# Altium integrated library ON Semi Signal Management IO Expanders.IntLib: 48 symbols (part 2 of 3)
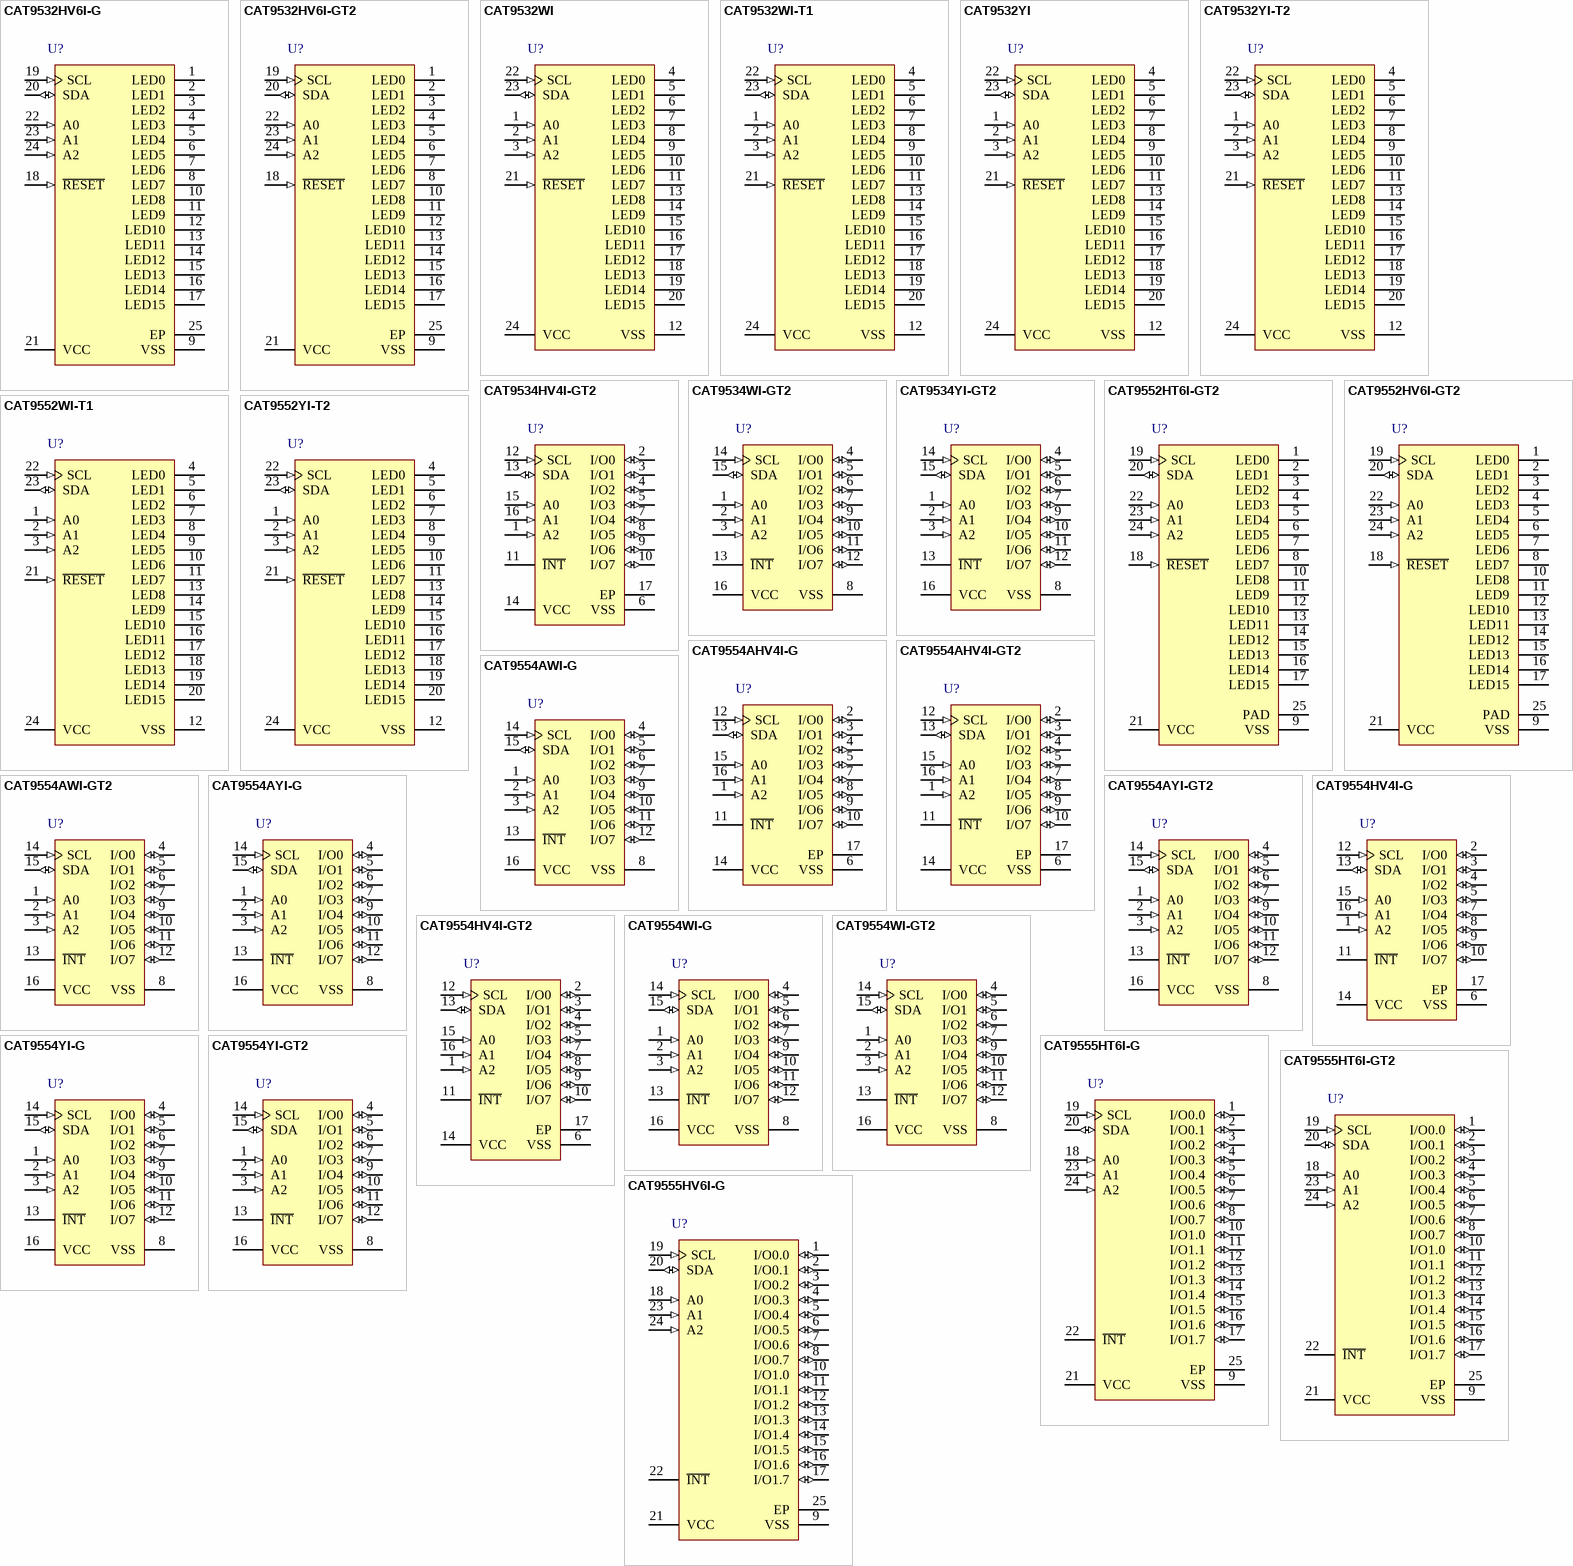
[diagram p2: symbols CAT9532HV6I-G to CAT9555HV6I-G]

## CAT9554YI-G
designator U?
8-Bit I2C and SMBus I/O Port with Interrupt, 2.3 to 5.5 V, -40 to 85 degC, 16-Pin TSSOP, Pb-Free, Tube; Manufacturer: On Semiconductor; PartNumber: CAT9554YI-G; I/O: 8; LED Blink/PWM: No; VCC Max (V): 5.5; VCC Min (V): 2.3; DatasheetVersion: Rev. 6; PackageVersion: Rev. O, 12/2008; PackageReference: TSSOP-16-948AN-01; PackageDescription: 16-Pin Small Outline Package, Body 5 x 4.4 mm, Pitch 0.65 mm; Supplier 1: Mouser; Supplier Part Number 1: 698-CAT9554YI-G; Packing: Tube; RoHS: TRUE; Mounting Technology: Surface Mount; Code_JEDEC: MO-153; ComponentLink1Description: Manufacturer URL; ComponentLink1URL: http://www.onsemi.com/; ComponentLink2Description: Datasheet; ComponentLink2URL: http://www.onsemi.com/pub_link/Collateral/CAT9554-D.PDF; ComponentLink3Description: Package Specification; ComponentLink3URL: http://www.onsemi.com/pub_link/Collateral/948AN.PDF
footprint ONSC-TSSOP-16-948AN-01_N (SOP, 16-Leads, Body 5.1x4.5mm, Pitch 0.65mm, IPC Medium Density)
footprint ONSC-TSSOP-16-948AN-01_L (SOP, 16-Leads, Body 5.1x4.5mm, Pitch 0.65mm, IPC High Density)
footprint ONSC-TSSOP-16-948AN-01_M (SOP, 16-Leads, Body 5.1x4.5mm, Pitch 0.65mm, IPC Low Density)
pins: 1 A0 (in) "Address Input 0", 2 A1 (in) "Address Input 1", 3 A2 (in) "Address Input 2", 4 I/O0 (io) "Input/Output Port 0", 5 I/O1 (io) "Input/Output Port 1", 6 I/O2 (io) "Input/Output Port 2", 7 I/O3 (io) "Input/Output Port 3", 8 VSS (power) "Ground", 9 I/O4 (io) "Input/Output Port 4", 10 I/O5 (io) "Input/Output Port 5", 11 I/O6 (io) "Input/Output Port 6", 12 I/O7 (io) "Input/Output Port 7", 13 ~{INT} (oc) "Interrupt Output (open drain)", 14 SCL (in) "Serial Clock", 15 SDA (io) "Serial Data", 16 VCC (power) "Power Supply"

## CAT9554YI-GT2
designator U?
8-Bit I2C and SMBus I/O Port with Interrupt, 2.3 to 5.5 V, -40 to 85 degC, 16-Pin TSSOP, Pb-Free, Tape and Reel; Manufacturer: On Semiconductor; PartNumber: CAT9554YI-GT2; I/O: 8; LED Blink/PWM: No; VCC Max (V): 5.5; VCC Min (V): 2.3; DatasheetVersion: Rev. 6; PackageVersion: Rev. O, 12/2008; PackageReference: TSSOP-16-948AN-01; PackageDescription: 16-Pin Small Outline Package, Body 5 x 4.4 mm, Pitch 0.65 mm; Supplier 1: Digi-Key; Supplier Part Number 1: CAT9554YI-GT2TR-ND; Supplier 2: Digi-Key; Supplier Part Number 2: CAT9554YI-GT2CT-ND; Supplier 3: Digi-Key; Supplier Part Number 3: CAT9554YI-GT2DKR-ND; Supplier 4: Newark; Supplier Part Number 4: 06R1500; Supplier 5: Mouser; Supplier Part Number 5: 698-CAT9554YI-GT2; Packing: Tape and Reel; RoHS: TRUE; Mounting Technology: Surface Mount; Code_JEDEC: MO-153; ComponentLink1Description: Manufacturer URL; ComponentLink1URL: http://www.onsemi.com/; ComponentLink2Description: Datasheet; ComponentLink2URL: http://www.onsemi.com/pub_link/Collateral/CAT9554-D.PDF; ComponentLink3Description: Package Specification; ComponentLink3URL: http://www.onsemi.com/pub_link/Collateral/948AN.PDF
footprint ONSC-TSSOP-16-948AN-01_N (SOP, 16-Leads, Body 5.1x4.5mm, Pitch 0.65mm, IPC Medium Density)
footprint ONSC-TSSOP-16-948AN-01_L (SOP, 16-Leads, Body 5.1x4.5mm, Pitch 0.65mm, IPC High Density)
footprint ONSC-TSSOP-16-948AN-01_M (SOP, 16-Leads, Body 5.1x4.5mm, Pitch 0.65mm, IPC Low Density)
pins: 1 A0 (in) "Address Input 0", 2 A1 (in) "Address Input 1", 3 A2 (in) "Address Input 2", 4 I/O0 (io) "Input/Output Port 0", 5 I/O1 (io) "Input/Output Port 1", 6 I/O2 (io) "Input/Output Port 2", 7 I/O3 (io) "Input/Output Port 3", 8 VSS (power) "Ground", 9 I/O4 (io) "Input/Output Port 4", 10 I/O5 (io) "Input/Output Port 5", 11 I/O6 (io) "Input/Output Port 6", 12 I/O7 (io) "Input/Output Port 7", 13 ~{INT} (oc) "Interrupt Output (open drain)", 14 SCL (in) "Serial Clock", 15 SDA (io) "Serial Data", 16 VCC (power) "Power Supply"

## CAT9555HT6I-G
designator U?
16-Bit I2C and SMBus I/O Port with Interrupt, 2.3 to 5.5 V, -40 to 85 degC, 24-Pin TQFN, Pb-Free, Tube; Manufacturer: On Semiconductor; PartNumber: CAT9555HT6I-G; I/O: 16; LED Blink/PWM: No; VCC Max (V): 5.5; VCC Min (V): 2.3; DatasheetVersion: Rev. 11; PackageVersion: Rev. B, 12/2009; PackageReference: TQFN-24-510AG-01; PackageDescription: 24-Pin Quad Flat No-Lead, Body 4 x 4 mm, Pitch 0.5 mm; Packing: Tube; RoHS: TRUE; Mounting Technology: Surface Mount; Code_JEDEC: MO-220; ComponentLink1Description: Manufacturer URL; ComponentLink1URL: http://www.onsemi.com/; ComponentLink2Description: Datasheet; ComponentLink2URL: http://www.onsemi.com/pub_link/Collateral/CAT9555-D.PDF; ComponentLink3Description: Package Specification; ComponentLink3URL: http://www.onsemi.com/pub_link/Collateral/510AG.PDF
footprint ONSC-TQFN-24-510AG-01_N (QFN, 24-Leads, Body 4x4mm, Pitch 0.5mm, Thermal Pad 2.8x2.8mm, IPC Medium Density)
footprint ONSC-TQFN-24-510AG-01_L (QFN, 24-Leads, Body 4x4mm, Pitch 0.5mm, Thermal Pad 2.8x2.8mm, IPC High Density)
footprint ONSC-TQFN-24-510AG-01_M (QFN, 24-Leads, Body 4x4mm, Pitch 0.5mm, Thermal Pad 2.8x2.8mm, IPC Low Density)
pins: 1 I/O0.0 (io) "I/O Port 0.0", 2 I/O0.1 (io) "I/O Port 0.1", 3 I/O0.2 (io) "I/O Port 0.2", 4 I/O0.3 (io) "I/O Port 0.3", 5 I/O0.4 (io) "I/O Port 0.4", 6 I/O0.5 (io) "I/O Port 0.5", 7 I/O0.6 (io) "I/O Port 0.6", 8 I/O0.7 (io) "I/O Port 0.7", 9 VSS (power) "Ground", 10 I/O1.0 (io) "I/O Port 1.0", 11 I/O1.1 (io) "I/O Port 1.1", 12 I/O1.2 (io) "I/O Port 1.2", 13 I/O1.3 (io) "I/O Port 1.3", 14 I/O1.4 (io) "I/O Port 1.4", 15 I/O1.5 (io) "I/O Port 1.5", 16 I/O1.6 (io) "I/O Port 1.6", 17 I/O1.7 (io) "I/O Port 1.7", 18 A0 (in) "Address Input 0", 19 SCL (in) "Serial Clock", 20 SDA (io) "Serial Data", 21 VCC (power) "Power Supply", 22 ~{INT} (oc) "Interrupt Output (open drain)", 23 A1 (in) "Address Input 1", 24 A2 (in) "Address Input 2", 25 EP

## CAT9555HT6I-GT2
designator U?
16-Bit I2C and SMBus I/O Port with Interrupt, 2.3 to 5.5 V, -40 to 85 degC, 24-Pin TQFN, Pb-Free, Tape and Reel; Manufacturer: On Semiconductor; PartNumber: CAT9555HT6I-GT2; I/O: 16; LED Blink/PWM: No; VCC Max (V): 5.5; VCC Min (V): 2.3; DatasheetVersion: Rev. 11; PackageVersion: Rev. B, 12/2009; PackageReference: TQFN-24-510AG-01; PackageDescription: 24-Pin Quad Flat No-Lead, Body 4 x 4 mm, Pitch 0.5 mm; Supplier 1: Digi-Key; Supplier Part Number 1: CAT9555HT6I-GT2-ND; Supplier 2: Mouser; Supplier Part Number 2: 863-CAT9555HT6I-GT2; Packing: Tape and Reel; RoHS: TRUE; Mounting Technology: Surface Mount; Code_JEDEC: MO-220; ComponentLink1Description: Manufacturer URL; ComponentLink1URL: http://www.onsemi.com/; ComponentLink2Description: Datasheet; ComponentLink2URL: http://www.onsemi.com/pub_link/Collateral/CAT9555-D.PDF; ComponentLink3Description: Package Specification; ComponentLink3URL: http://www.onsemi.com/pub_link/Collateral/510AG.PDF
footprint ONSC-TQFN-24-510AG-01_N (QFN, 24-Leads, Body 4x4mm, Pitch 0.5mm, Thermal Pad 2.8x2.8mm, IPC Medium Density)
footprint ONSC-TQFN-24-510AG-01_L (QFN, 24-Leads, Body 4x4mm, Pitch 0.5mm, Thermal Pad 2.8x2.8mm, IPC High Density)
footprint ONSC-TQFN-24-510AG-01_M (QFN, 24-Leads, Body 4x4mm, Pitch 0.5mm, Thermal Pad 2.8x2.8mm, IPC Low Density)
pins: 1 I/O0.0 (io) "I/O Port 0.0", 2 I/O0.1 (io) "I/O Port 0.1", 3 I/O0.2 (io) "I/O Port 0.2", 4 I/O0.3 (io) "I/O Port 0.3", 5 I/O0.4 (io) "I/O Port 0.4", 6 I/O0.5 (io) "I/O Port 0.5", 7 I/O0.6 (io) "I/O Port 0.6", 8 I/O0.7 (io) "I/O Port 0.7", 9 VSS (power) "Ground", 10 I/O1.0 (io) "I/O Port 1.0", 11 I/O1.1 (io) "I/O Port 1.1", 12 I/O1.2 (io) "I/O Port 1.2", 13 I/O1.3 (io) "I/O Port 1.3", 14 I/O1.4 (io) "I/O Port 1.4", 15 I/O1.5 (io) "I/O Port 1.5", 16 I/O1.6 (io) "I/O Port 1.6", 17 I/O1.7 (io) "I/O Port 1.7", 18 A0 (in) "Address Input 0", 19 SCL (in) "Serial Clock", 20 SDA (io) "Serial Data", 21 VCC (power) "Power Supply", 22 ~{INT} (oc) "Interrupt Output (open drain)", 23 A1 (in) "Address Input 1", 24 A2 (in) "Address Input 2", 25 EP

## CAT9555HV6I-G
designator U?
16-Bit I2C and SMBus I/O Port with Interrupt, 2.3 to 5.5 V, -40 to 85 degC, 24-Pin TQFN, Pb-Free, Tube; Manufacturer: On Semiconductor; PartNumber: CAT9555HV6I-G; I/O: 16; LED Blink/PWM: No; VCC Max (V): 5.5; VCC Min (V): 2.3; DatasheetVersion: Rev. 11; PackageVersion: Rev. B, 12/2009; PackageReference: TQFN-24-510AG-01; PackageDescription: 24-Pin Quad Flat No-Lead, Body 4 x 4 mm, Pitch 0.5 mm; Supplier 1: Digi-Key; Supplier Part Number 1: CAT9555HV6I-G-ND; Supplier 2: Mouser; Supplier Part Number 2: 863-CAT9555HV6I-G; Packing: Tube; RoHS: TRUE; Mounting Technology: Surface Mount; Code_JEDEC: MO-220; ComponentLink1Description: Manufacturer URL; ComponentLink1URL: http://www.onsemi.com/; ComponentLink2Description: Datasheet; ComponentLink2URL: http://www.onsemi.com/pub_link/Collateral/CAT9555-D.PDF; ComponentLink3Description: Package Specification; ComponentLink3URL: http://www.onsemi.com/pub_link/Collateral/510AG.PDF
footprint ONSC-TQFN-24-510AG-01_N (QFN, 24-Leads, Body 4x4mm, Pitch 0.5mm, Thermal Pad 2.8x2.8mm, IPC Medium Density)
footprint ONSC-TQFN-24-510AG-01_L (QFN, 24-Leads, Body 4x4mm, Pitch 0.5mm, Thermal Pad 2.8x2.8mm, IPC High Density)
footprint ONSC-TQFN-24-510AG-01_M (QFN, 24-Leads, Body 4x4mm, Pitch 0.5mm, Thermal Pad 2.8x2.8mm, IPC Low Density)
pins: 1 I/O0.0 (io) "I/O Port 0.0", 2 I/O0.1 (io) "I/O Port 0.1", 3 I/O0.2 (io) "I/O Port 0.2", 4 I/O0.3 (io) "I/O Port 0.3", 5 I/O0.4 (io) "I/O Port 0.4", 6 I/O0.5 (io) "I/O Port 0.5", 7 I/O0.6 (io) "I/O Port 0.6", 8 I/O0.7 (io) "I/O Port 0.7", 9 VSS (power) "Ground", 10 I/O1.0 (io) "I/O Port 1.0", 11 I/O1.1 (io) "I/O Port 1.1", 12 I/O1.2 (io) "I/O Port 1.2", 13 I/O1.3 (io) "I/O Port 1.3", 14 I/O1.4 (io) "I/O Port 1.4", 15 I/O1.5 (io) "I/O Port 1.5", 16 I/O1.6 (io) "I/O Port 1.6", 17 I/O1.7 (io) "I/O Port 1.7", 18 A0 (in) "Address Input 0", 19 SCL (in) "Serial Clock", 20 SDA (io) "Serial Data", 21 VCC (power) "Power Supply", 22 ~{INT} (oc) "Interrupt Output (open drain)", 23 A1 (in) "Address Input 1", 24 A2 (in) "Address Input 2", 25 EP

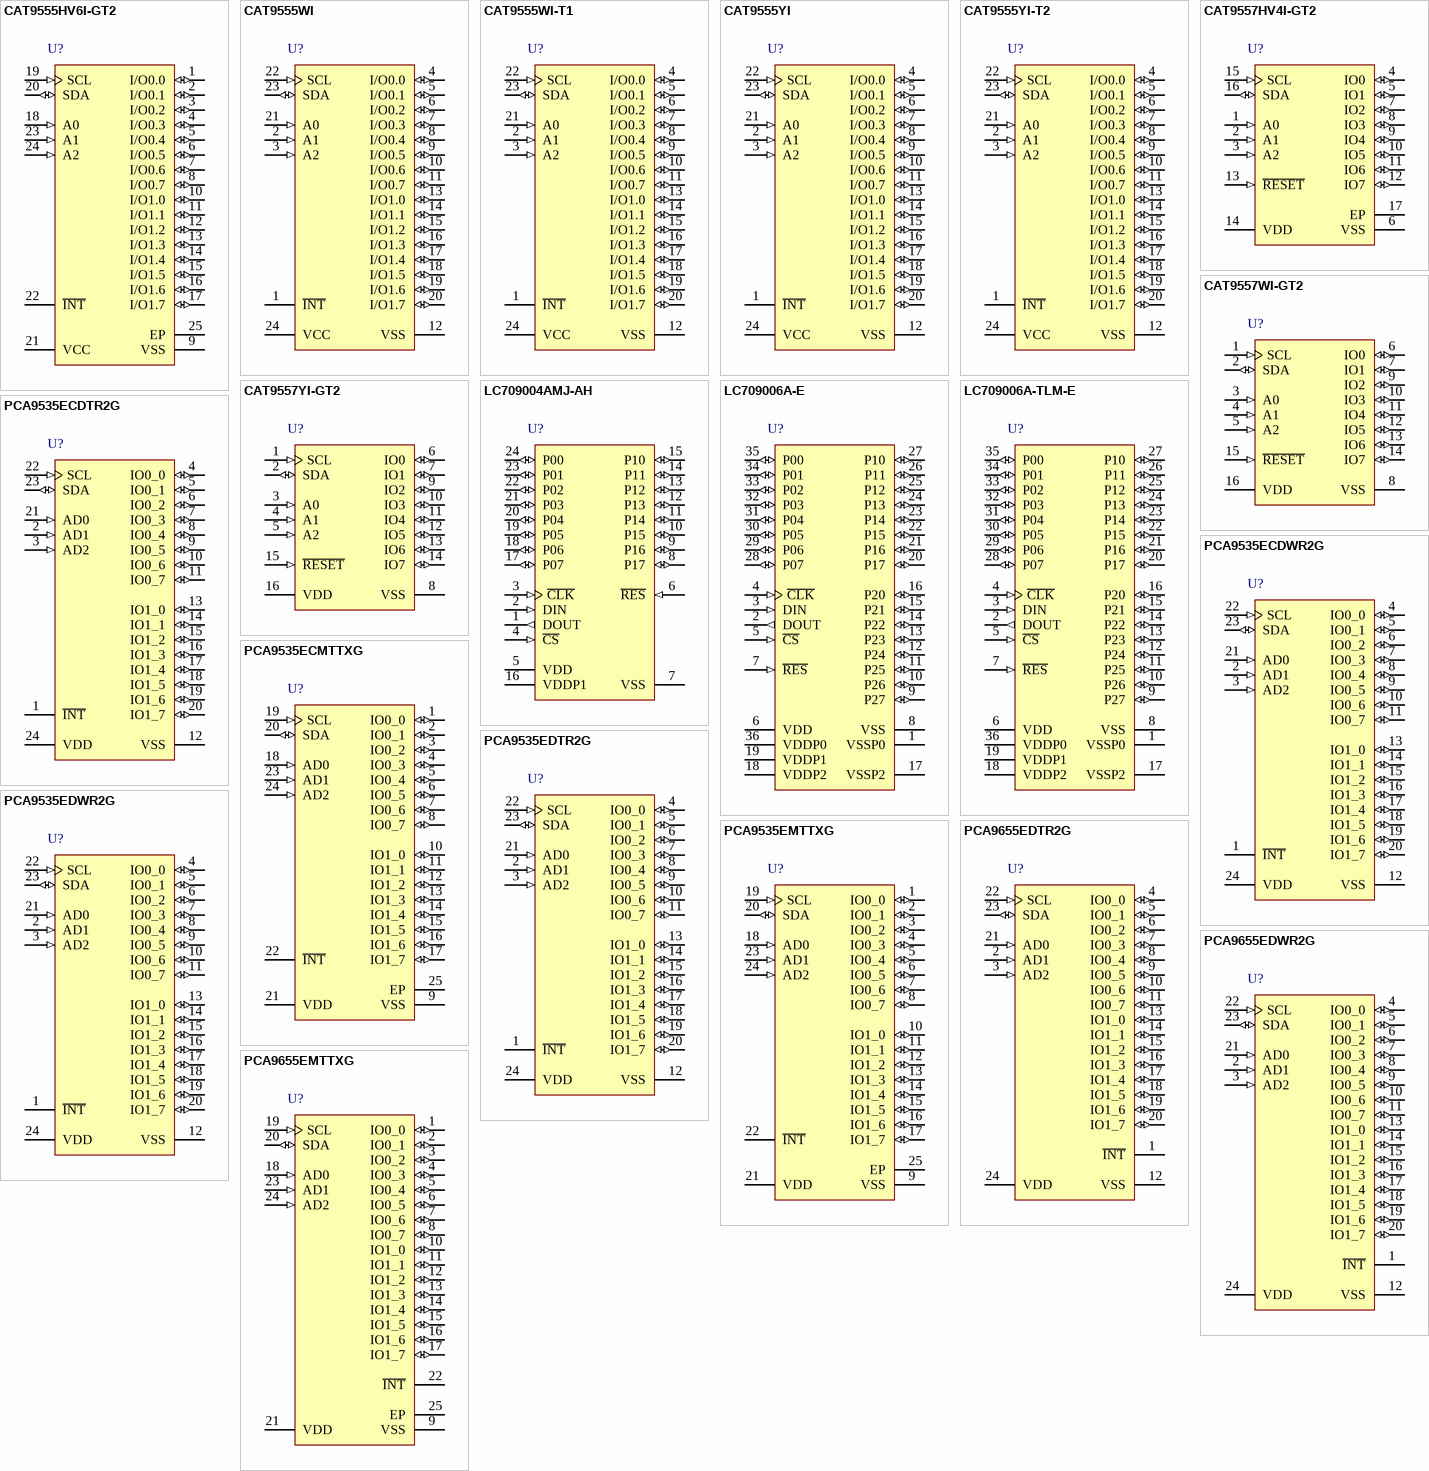
[diagram p1: symbols CAT9555HV6I-GT2 to PCA9655EMTTXG]

## CAT9555HV6I-GT2
designator U?
16-Bit I2C and SMBus I/O Port with Interrupt, 2.3 to 5.5 V, -40 to 85 degC, 24-Pin TQFN, Pb-Free, Tape and Reel; Manufacturer: On Semiconductor; PartNumber: CAT9555HV6I-GT2; I/O: 16; LED Blink/PWM: No; VCC Max (V): 5.5; VCC Min (V): 2.3; DatasheetVersion: Rev. 11; PackageVersion: Rev. B, 12/2009; PackageReference: TQFN-24-510AG-01; PackageDescription: 24-Pin Quad Flat No-Lead, Body 4 x 4 mm, Pitch 0.5 mm; Supplier 1: Digi-Key; Supplier Part Number 1: CAT9555HV6I-GT2-ND; Supplier 2: Mouser; Supplier Part Number 2: 698-CAT9555HV6I-GT2; Packing: Tape and Reel; RoHS: TRUE; Mounting Technology: Surface Mount; Code_JEDEC: MO-220; ComponentLink1Description: Manufacturer URL; ComponentLink1URL: http://www.onsemi.com/; ComponentLink2Description: Datasheet; ComponentLink2URL: http://www.onsemi.com/pub_link/Collateral/CAT9555-D.PDF; ComponentLink3Description: Package Specification; ComponentLink3URL: http://www.onsemi.com/pub_link/Collateral/510AG.PDF
footprint ONSC-TQFN-24-510AG-01_N (QFN, 24-Leads, Body 4x4mm, Pitch 0.5mm, Thermal Pad 2.8x2.8mm, IPC Medium Density)
footprint ONSC-TQFN-24-510AG-01_L (QFN, 24-Leads, Body 4x4mm, Pitch 0.5mm, Thermal Pad 2.8x2.8mm, IPC High Density)
footprint ONSC-TQFN-24-510AG-01_M (QFN, 24-Leads, Body 4x4mm, Pitch 0.5mm, Thermal Pad 2.8x2.8mm, IPC Low Density)
pins: 1 I/O0.0 (io) "I/O Port 0.0", 2 I/O0.1 (io) "I/O Port 0.1", 3 I/O0.2 (io) "I/O Port 0.2", 4 I/O0.3 (io) "I/O Port 0.3", 5 I/O0.4 (io) "I/O Port 0.4", 6 I/O0.5 (io) "I/O Port 0.5", 7 I/O0.6 (io) "I/O Port 0.6", 8 I/O0.7 (io) "I/O Port 0.7", 9 VSS (power) "Ground", 10 I/O1.0 (io) "I/O Port 1.0", 11 I/O1.1 (io) "I/O Port 1.1", 12 I/O1.2 (io) "I/O Port 1.2", 13 I/O1.3 (io) "I/O Port 1.3", 14 I/O1.4 (io) "I/O Port 1.4", 15 I/O1.5 (io) "I/O Port 1.5", 16 I/O1.6 (io) "I/O Port 1.6", 17 I/O1.7 (io) "I/O Port 1.7", 18 A0 (in) "Address Input 0", 19 SCL (in) "Serial Clock", 20 SDA (io) "Serial Data", 21 VCC (power) "Power Supply", 22 ~{INT} (oc) "Interrupt Output (open drain)", 23 A1 (in) "Address Input 1", 24 A2 (in) "Address Input 2", 25 EP

## CAT9555WI
designator U?
16-Bit I2C and SMBus I/O Port with Interrupt, 2.3 to 5.5 V, -40 to 85 degC, 24-Pin SOIC, Pb-Free, Tube; Manufacturer: On Semiconductor; PartNumber: CAT9555WI; I/O: 16; LED Blink/PWM: No; VCC Max (V): 5.5; VCC Min (V): 2.3; DatasheetVersion: Rev. 11; PackageVersion: Rev. O, 12/2008; PackageReference: SOIC-24-751BK-01; PackageDescription: 24-Pin Small Outline Integrated Circuit, Body 15.3 x 7.47 mm, Pitch 1.27 mm; Supplier 1: Mouser; Supplier Part Number 1: 698-CAT9555WI; Packing: Tube; RoHS: TRUE; Mounting Technology: Surface Mount; Code_JEDEC: MS-013; ComponentLink1Description: Manufacturer URL; ComponentLink1URL: http://www.onsemi.com/; ComponentLink2Description: Datasheet; ComponentLink2URL: http://www.onsemi.com/pub_link/Collateral/CAT9555-D.PDF; ComponentLink3Description: Package Specification; ComponentLink3URL: http://www.onsemi.com/pub/Collateral/751BK.PDF
footprint ONSC-SOIC-24-751BK-01_N (SOIC, 24-Leads, Body 15.4x7.6mm, Pitch 1.27mm, IPC Medium Density)
footprint ONSC-SOIC-24-751BK-01_L (SOIC, 24-Leads, Body 15.4x7.6mm, Pitch 1.27mm, IPC High Density)
footprint ONSC-SOIC-24-751BK-01_M (SOIC, 24-Leads, Body 15.4x7.6mm, Pitch 1.27mm, IPC Low Density)
pins: 1 ~{INT} (oc) "Interrupt Output (open drain)", 2 A1 (in) "Address Input 1", 3 A2 (in) "Address Input 2", 4 I/O0.0 (io) "I/O Port 0.0", 5 I/O0.1 (io) "I/O Port 0.1", 6 I/O0.2 (io) "I/O Port 0.2", 7 I/O0.3 (io) "I/O Port 0.3", 8 I/O0.4 (io) "I/O Port 0.4", 9 I/O0.5 (io) "I/O Port 0.5", 10 I/O0.6 (io) "I/O Port 0.6", 11 I/O0.7 (io) "I/O Port 0.7", 12 VSS (power) "Ground", 13 I/O1.0 (io) "I/O Port 1.0", 14 I/O1.1 (io) "I/O Port 1.1", 15 I/O1.2 (io) "I/O Port 1.2", 16 I/O1.3 (io) "I/O Port 1.3", 17 I/O1.4 (io) "I/O Port 1.4", 18 I/O1.5 (io) "I/O Port 1.5", 19 I/O1.6 (io) "I/O Port 1.6", 20 I/O1.7 (io) "I/O Port 1.7", 21 A0 (in) "Address Input 0", 22 SCL (in) "Serial Clock", 23 SDA (io) "Serial Data", 24 VCC (power) "Power Supply"

## CAT9555WI-T1
designator U?
16-Bit I2C and SMBus I/O Port with Interrupt, 2.3 to 5.5 V, -40 to 85 degC, 24-Pin SOIC, Pb-Free, Tape and Reel; Manufacturer: On Semiconductor; PartNumber: CAT9555WI-T1; I/O: 16; LED Blink/PWM: No; VCC Max (V): 5.5; VCC Min (V): 2.3; DatasheetVersion: Rev. 11; PackageVersion: Rev. O, 12/2008; PackageReference: SOIC-24-751BK-01; PackageDescription: 24-Pin Small Outline Integrated Circuit, Body 15.3 x 7.47 mm, Pitch 1.27 mm; Supplier 1: Digi-Key; Supplier Part Number 1: CAT9555WI-T1TR-ND; Supplier 2: Digi-Key; Supplier Part Number 2: CAT9555WI-T1CT-ND; Supplier 3: Digi-Key; Supplier Part Number 3: CAT9555WI-T1DKR-ND; Supplier 4: Farnell; Supplier Part Number 4: 1718510; Supplier 5: Newark; Supplier Part Number 5: 08R5467; Supplier 6: Mouser; Supplier Part Number 6: 698-CAT9555WI-T1; Packing: Tape and Reel; RoHS: TRUE; Mounting Technology: Surface Mount; Code_JEDEC: MS-013; ComponentLink1Description: Manufacturer URL; ComponentLink1URL: http://www.onsemi.com/; ComponentLink2Description: Datasheet; ComponentLink2URL: http://www.onsemi.com/pub_link/Collateral/CAT9555-D.PDF; ComponentLink3Description: Package Specification; ComponentLink3URL: http://www.onsemi.com/pub/Collateral/751BK.PDF
footprint ONSC-SOIC-24-751BK-01_N (SOIC, 24-Leads, Body 15.4x7.6mm, Pitch 1.27mm, IPC Medium Density)
footprint ONSC-SOIC-24-751BK-01_L (SOIC, 24-Leads, Body 15.4x7.6mm, Pitch 1.27mm, IPC High Density)
footprint ONSC-SOIC-24-751BK-01_M (SOIC, 24-Leads, Body 15.4x7.6mm, Pitch 1.27mm, IPC Low Density)
pins: 1 ~{INT} (oc) "Interrupt Output (open drain)", 2 A1 (in) "Address Input 1", 3 A2 (in) "Address Input 2", 4 I/O0.0 (io) "I/O Port 0.0", 5 I/O0.1 (io) "I/O Port 0.1", 6 I/O0.2 (io) "I/O Port 0.2", 7 I/O0.3 (io) "I/O Port 0.3", 8 I/O0.4 (io) "I/O Port 0.4", 9 I/O0.5 (io) "I/O Port 0.5", 10 I/O0.6 (io) "I/O Port 0.6", 11 I/O0.7 (io) "I/O Port 0.7", 12 VSS (power) "Ground", 13 I/O1.0 (io) "I/O Port 1.0", 14 I/O1.1 (io) "I/O Port 1.1", 15 I/O1.2 (io) "I/O Port 1.2", 16 I/O1.3 (io) "I/O Port 1.3", 17 I/O1.4 (io) "I/O Port 1.4", 18 I/O1.5 (io) "I/O Port 1.5", 19 I/O1.6 (io) "I/O Port 1.6", 20 I/O1.7 (io) "I/O Port 1.7", 21 A0 (in) "Address Input 0", 22 SCL (in) "Serial Clock", 23 SDA (io) "Serial Data", 24 VCC (power) "Power Supply"

## CAT9555YI
designator U?
16-Bit I2C and SMBus I/O Port with Interrupt, 2.3 to 5.5 V, -40 to 85 degC, 24-Pin TSSOP, Pb-Free, Tube; Manufacturer: On Semiconductor; PartNumber: CAT9555YI; I/O: 16; LED Blink/PWM: No; VCC Max (V): 5.5; VCC Min (V): 2.3; DatasheetVersion: Rev. 11; PackageVersion: Rev. A, 03/2009; PackageReference: TSSOP-24-948AR-01; PackageDescription: 24-Pin Small Outline Package, Body 7.8 x 4.4 mm, Pitch 0.65 mm; Supplier 1: Mouser; Supplier Part Number 1: 698-CAT9555YI; Packing: Tube; RoHS: TRUE; Mounting Technology: Surface Mount; Code_JEDEC: MO-153; ComponentLink1Description: Manufacturer URL; ComponentLink1URL: http://www.onsemi.com/; ComponentLink2Description: Datasheet; ComponentLink2URL: http://www.onsemi.com/pub_link/Collateral/CAT9555-D.PDF; ComponentLink3Description: Package Specification; ComponentLink3URL: http://www.onsemi.com/pub_link/Collateral/948AR.PDF
footprint ONSC-TSSOP-24-948AR-01_N (SOP, 24-Leads, Body 7.9x4.5mm, Pitch 0.65mm, IPC Medium Density)
footprint ONSC-TSSOP-24-948AR-01_L (SOP, 24-Leads, Body 7.9x4.5mm, Pitch 0.65mm, IPC High Density)
footprint ONSC-TSSOP-24-948AR-01_M (SOP, 24-Leads, Body 7.9x4.5mm, Pitch 0.65mm, IPC Low Density)
pins: 1 ~{INT} (oc) "Interrupt Output (open drain)", 2 A1 (in) "Address Input 1", 3 A2 (in) "Address Input 2", 4 I/O0.0 (io) "I/O Port 0.0", 5 I/O0.1 (io) "I/O Port 0.1", 6 I/O0.2 (io) "I/O Port 0.2", 7 I/O0.3 (io) "I/O Port 0.3", 8 I/O0.4 (io) "I/O Port 0.4", 9 I/O0.5 (io) "I/O Port 0.5", 10 I/O0.6 (io) "I/O Port 0.6", 11 I/O0.7 (io) "I/O Port 0.7", 12 VSS (power) "Ground", 13 I/O1.0 (io) "I/O Port 1.0", 14 I/O1.1 (io) "I/O Port 1.1", 15 I/O1.2 (io) "I/O Port 1.2", 16 I/O1.3 (io) "I/O Port 1.3", 17 I/O1.4 (io) "I/O Port 1.4", 18 I/O1.5 (io) "I/O Port 1.5", 19 I/O1.6 (io) "I/O Port 1.6", 20 I/O1.7 (io) "I/O Port 1.7", 21 A0 (in) "Address Input 0", 22 SCL (in) "Serial Clock", 23 SDA (io) "Serial Data", 24 VCC (power) "Power Supply"

## CAT9555YI-T2
designator U?
16-Bit I2C and SMBus I/O Port with Interrupt, 2.3 to 5.5 V, -40 to 85 degC, 24-Pin TSSOP, Pb-Free, Tape and Reel; Manufacturer: On Semiconductor; PartNumber: CAT9555YI-T2; I/O: 16; LED Blink/PWM: No; VCC Max (V): 5.5; VCC Min (V): 2.3; DatasheetVersion: Rev. 11; PackageVersion: Rev. A, 03/2009; PackageReference: TSSOP-24-948AR-01; PackageDescription: 24-Pin Small Outline Package, Body 7.8 x 4.4 mm, Pitch 0.65 mm; Supplier 1: Digi-Key; Supplier Part Number 1: CAT9555YI-T2TR-ND; Supplier 2: Digi-Key; Supplier Part Number 2: CAT9555YI-T2CT-ND; Supplier 3: Digi-Key; Supplier Part Number 3: CAT9555YI-T2DKR-ND; Supplier 4: Newark; Supplier Part Number 4: 06R1504; Supplier 5: Mouser; Supplier Part Number 5: 698-CAT9555YI-T2; Packing: Tape and Reel; RoHS: TRUE; Mounting Technology: Surface Mount; Code_JEDEC: MO-153; ComponentLink1Description: Manufacturer URL; ComponentLink1URL: http://www.onsemi.com/; ComponentLink2Description: Datasheet; ComponentLink2URL: http://www.onsemi.com/pub_link/Collateral/CAT9555-D.PDF; ComponentLink3Description: Package Specification; ComponentLink3URL: http://www.onsemi.com/pub_link/Collateral/948AR.PDF
footprint ONSC-TSSOP-24-948AR-01_N (SOP, 24-Leads, Body 7.9x4.5mm, Pitch 0.65mm, IPC Medium Density)
footprint ONSC-TSSOP-24-948AR-01_L (SOP, 24-Leads, Body 7.9x4.5mm, Pitch 0.65mm, IPC High Density)
footprint ONSC-TSSOP-24-948AR-01_M (SOP, 24-Leads, Body 7.9x4.5mm, Pitch 0.65mm, IPC Low Density)
pins: 1 ~{INT} (oc) "Interrupt Output (open drain)", 2 A1 (in) "Address Input 1", 3 A2 (in) "Address Input 2", 4 I/O0.0 (io) "I/O Port 0.0", 5 I/O0.1 (io) "I/O Port 0.1", 6 I/O0.2 (io) "I/O Port 0.2", 7 I/O0.3 (io) "I/O Port 0.3", 8 I/O0.4 (io) "I/O Port 0.4", 9 I/O0.5 (io) "I/O Port 0.5", 10 I/O0.6 (io) "I/O Port 0.6", 11 I/O0.7 (io) "I/O Port 0.7", 12 VSS (power) "Ground", 13 I/O1.0 (io) "I/O Port 1.0", 14 I/O1.1 (io) "I/O Port 1.1", 15 I/O1.2 (io) "I/O Port 1.2", 16 I/O1.3 (io) "I/O Port 1.3", 17 I/O1.4 (io) "I/O Port 1.4", 18 I/O1.5 (io) "I/O Port 1.5", 19 I/O1.6 (io) "I/O Port 1.6", 20 I/O1.7 (io) "I/O Port 1.7", 21 A0 (in) "Address Input 0", 22 SCL (in) "Serial Clock", 23 SDA (io) "Serial Data", 24 VCC (power) "Power Supply"

## CAT9557HV4I-GT2
designator U?
8-Bit I2C-Bus and SMBus I/O Port with Reset, 2.3 to 5.5 V, -40 to 85 degC, 16-Pin TQFN, Pb-Free, Tape and Reel; Manufacturer: On Semiconductor; PartNumber: CAT9557HV4I-GT2; I/O: 8; LED Blink/PWM: No; VCC Max (V): 5.5; VCC Min (V): 2.3; DatasheetVersion: Rev. 0; PackageVersion: Rev. A, 03/2009; PackageReference: TQFN-16-510AE-01; PackageDescription: 16-Pin Quad Flat No-Lead, Body 4 x 4 mm, Pitch 0.65 mm; Packing: Tape and Reel; RoHS: TRUE; Mounting Technology: Surface Mount; Code_JEDEC: MO-220; ComponentLink1Description: Manufacturer URL; ComponentLink1URL: http://www.onsemi.com/; ComponentLink2Description: Datasheet; ComponentLink2URL: http://www.onsemi.com/pub_link/Collateral/CAT9557-D.PDF; ComponentLink3Description: Package Specification; ComponentLink3URL: http://www.onsemi.com/pub_link/Collateral/510AE.PDF
footprint ONSC-TQFN-16-510AE-01_N (QFN, 16-Leads, Body 4.1x4.1mm, Pitch 0.65mm, Thermal Pad 2.13x2.13mm, IPC Medium Density)
footprint ONSC-TQFN-16-510AE-01_L (QFN, 16-Leads, Body 4.1x4.1mm, Pitch 0.65mm, Thermal Pad 2.13x2.13mm, IPC High Density)
footprint ONSC-TQFN-16-510AE-01_M (QFN, 16-Leads, Body 4.1x4.1mm, Pitch 0.65mm, Thermal Pad 2.13x2.13mm, IPC Low Density)
pins: 1 A0 (in) "Address Input 0", 2 A1 (in) "Address Input 1", 3 A2 (in) "Address Input 2", 4 IO0 (io) "Input/Output 0 (open-drain)", 5 IO1 (io) "Input/Output 1", 6 VSS (power) "Supply Ground", 7 IO2 (io) "Input/Output 2", 8 IO3 (io) "Input/Output 3", 9 IO4 (io) "Input/Output 4", 10 IO5 (io) "Input/Output 5", 11 IO6 (io) "Input/Output 6", 12 IO7 (io) "Input/Output 7", 13 ~{RESET} (in) "Active LOW Reset Input", 14 VDD (power) "Supply Voltage", 15 SCL (in) "Serial Clock Line", 16 SDA (io) "Serial Data Line", 17 EP (power)

## CAT9557WI-GT2
designator U?
8-Bit I2C-Bus and SMBus I/O Port with Reset, 2.3 to 5.5 V, -40 to 85 degC, 16-Pin SOIC, Pb-Free, Tape and Reel; Manufacturer: On Semiconductor; PartNumber: CAT9557WI-GT2; I/O: 8; LED Blink/PWM: No; VCC Max (V): 5.5; VCC Min (V): 2.3; DatasheetVersion: Rev. 0; PackageVersion: Rev. O, 12/2008; PackageReference: SOIC-16-751BG-01; PackageDescription: 16-Pin Small Outline Integrated Circuit, Body 9.9 x 3.9 mm, Pitch 1.27 mm; Packing: Tape and Reel; RoHS: TRUE; Mounting Technology: Surface Mount; Code_JEDEC: MS-012; ComponentLink1Description: Manufacturer URL; ComponentLink1URL: http://www.onsemi.com/; ComponentLink2Description: Datasheet; ComponentLink2URL: http://www.onsemi.com/pub_link/Collateral/CAT9557-D.PDF; ComponentLink3Description: Package Specification; ComponentLink3URL: http://www.onsemi.com/pub_link/Collateral/751BG.PDF
footprint ONSC-SOIC-16-751BG-01_N (SOIC, 16-Leads, Body 10x4mm, Pitch 1.27mm, IPC Medium Density)
footprint ONSC-SOIC-16-751BG-01_L (SOIC, 16-Leads, Body 10x4mm, Pitch 1.27mm, IPC High Density)
footprint ONSC-SOIC-16-751BG-01_M (SOIC, 16-Leads, Body 10x4mm, Pitch 1.27mm, IPC Low Density)
pins: 1 SCL (in) "Serial Clock Line", 2 SDA (io) "Serial Data Line", 3 A0 (in) "Address Input 0", 4 A1 (in) "Address Input 1", 5 A2 (in) "Address Input 2", 6 IO0 (io) "Input/Output 0 (open-drain)", 7 IO1 (io) "Input/Output 1", 8 VSS (power) "Supply Ground", 9 IO2 (io) "Input/Output 2", 10 IO3 (io) "Input/Output 3", 11 IO4 (io) "Input/Output 4", 12 IO5 (io) "Input/Output 5", 13 IO6 (io) "Input/Output 6", 14 IO7 (io) "Input/Output 7", 15 ~{RESET} (in) "Active LOW Reset Input", 16 VDD (power) "Supply Voltage"

## CAT9557YI-GT2
designator U?
8-Bit I2C-Bus and SMBus I/O Port with Reset, 2.3 to 5.5 V, -40 to 85 degC, 16-Pin TSSOP, Pb-Free, Tape and Reel; Manufacturer: On Semiconductor; PartNumber: CAT9557YI-GT2; I/O: 8; LED Blink/PWM: No; VCC Max (V): 5.5; VCC Min (V): 2.3; DatasheetVersion: Rev. 0; PackageVersion: Rev. O, 12/2008; PackageReference: TSSOP-16-948AN-01; PackageDescription: 16-Pin Small Outline Package, Body 5 x 4.4 mm, Pitch 0.65 mm; Packing: Tape and Reel; RoHS: TRUE; Mounting Technology: Surface Mount; Code_JEDEC: MO-153; ComponentLink1Description: Manufacturer URL; ComponentLink1URL: http://www.onsemi.com/; ComponentLink2Description: Datasheet; ComponentLink2URL: http://www.onsemi.com/pub_link/Collateral/CAT9557-D.PDF; ComponentLink3Description: Package Specification; ComponentLink3URL: http://www.onsemi.com/pub_link/Collateral/948AN.PDF
footprint ONSC-TSSOP-16-948AN-01_N (SOP, 16-Leads, Body 5.1x4.5mm, Pitch 0.65mm, IPC Medium Density)
footprint ONSC-TSSOP-16-948AN-01_L (SOP, 16-Leads, Body 5.1x4.5mm, Pitch 0.65mm, IPC High Density)
footprint ONSC-TSSOP-16-948AN-01_M (SOP, 16-Leads, Body 5.1x4.5mm, Pitch 0.65mm, IPC Low Density)
pins: 1 SCL (in) "Serial Clock Line", 2 SDA (io) "Serial Data Line", 3 A0 (in) "Address Input 0", 4 A1 (in) "Address Input 1", 5 A2 (in) "Address Input 2", 6 IO0 (io) "Input/Output 0 (open-drain)", 7 IO1 (io) "Input/Output 1", 8 VSS (power) "Supply Ground", 9 IO2 (io) "Input/Output 2", 10 IO3 (io) "Input/Output 3", 11 IO4 (io) "Input/Output 4", 12 IO5 (io) "Input/Output 5", 13 IO6 (io) "Input/Output 6", 14 IO7 (io) "Input/Output 7", 15 ~{RESET} (in) "Active LOW Reset Input", 16 VDD (power) "Supply Voltage"

## LC709004AMJ-AH
designator U?
I/O-Expander for Microcontroller, 2 to 6 V, -30 to 70 degC, 24-Pin MFP24SJ, Pb-Free, Tape and Reel; Manufacturer: On Semiconductor; PartNumber: LC709004AMJ-AH; I/O: 16; LED Blink/PWM: No; VCC Max (V): 6; VCC Min (V): 2; DatasheetVersion: Rev. 0.22; PackageVersion: Rev. O, 05/2012; PackageReference: MFP24SJ-24-751DB; PackageDescription: 24-Pin Mini Flat Package, Body 13 x 6 mm, Pitch 1 mm; Supplier 1: Digi-Key; Supplier Part Number 1: LC709004AMJ-AH-ND; Supplier 2: Mouser; Supplier Part Number 2: 863-LC709004AMJ-AH; Packing: Tape and Reel; RoHS: TRUE; Mounting Technology: Surface Mount; ComponentLink1Description: Manufacturer URL; ComponentLink1URL: http://www.onsemi.com/; ComponentLink2Description: Datasheet; ComponentLink2URL: http://www.onsemi.com/pub_link/Collateral/ENA0165-D.PDF; ComponentLink3Description: Package Specification; ComponentLink3URL: http://www.onsemi.com/pub_link/Collateral/751DB.PDF
footprint ONSC-MFP24SJ-24-751DB_N (SOP, 24-Leads, Body 13.2x6.2mm, Pitch 1mm, IPC Medium Density)
footprint ONSC-MFP24SJ-24-751DB_L (SOP, 24-Leads, Body 13.2x6.2mm, Pitch 1mm, IPC High Density)
footprint ONSC-MFP24SJ-24-751DB_M (SOP, 24-Leads, Body 13.2x6.2mm, Pitch 1mm, IPC Low Density)
pins: 1 DOUT (out) "Serial data output pin", 2 DIN (in) "Serial data input pin", 3 ~{CLK} (in) "Serial clock input pin. Port data is placed on DOUT on the falling edge of this clock. The data from DIN is latched on the negative-to-positive transition of this clock", 4 ~{CS} (in) "Chip select input pin. Setting this pin to the low level enables serial data to be input or output", 5 VDD (power) "power supply pin. VDD is the power supply pin for blocks other than I/O ports (P00 to P17)", 6 ~{RES} (in) "Device's system reset input pin. Setting this pin to the low level initializes the internal control circuit and registers and puts DOUT in the high level and all data port pins (P00 to P17) into the HI-Z state.", 7 VSS (power) "power supply pin", 8 P17 (io) "8-bit I/O port. I/O specifiable in 1 bit units. CMOS/Nch-open drain specifiable in 1bit units. Output voltage variable in 1 port units according to VDDP1 voltage.", 9 P16 (io) "8-bit I/O port. I/O specifiable in 1 bit units. CMOS/Nch-open drain specifiable in 1bit units. Output voltage variable in 1 port units according to VDDP1 voltage.", 10 P15 (io) "8-bit I/O port. I/O specifiable in 1 bit units. CMOS/Nch-open drain specifiable in 1bit units. Output voltage variable in 1 port units according to VDDP1 voltage.", 11 P14 (io) "8-bit I/O port. I/O specifiable in 1 bit units. CMOS/Nch-open drain specifiable in 1bit units. Output voltage variable in 1 port units according to VDDP1 voltage.", 12 P13 (io) "8-bit I/O port. I/O specifiable in 1 bit units. CMOS/Nch-open drain specifiable in 1bit units. Output voltage variable in 1 port units according to VDDP1 voltage.", 13 P12 (io) "8-bit I/O port. I/O specifiable in 1 bit units. CMOS/Nch-open drain specifiable in 1bit units. Output voltage variable in 1 port units according to VDDP1 voltage.", 14 P11 (io) "8-bit I/O port. I/O specifiable in 1 bit units. CMOS/Nch-open drain specifiable in 1bit units. Output voltage variable in 1 port units according to VDDP1 voltage.", 15 P10 (io) "8-bit I/O port. I/O specifiable in 1 bit units. CMOS/Nch-open drain specifiable in 1bit units. Output voltage variable in 1 port units according to VDDP1 voltage.", 16 VDDP1 (power) "VDDP1 is the power supply pin for port pins P00 to P17. VDDP1 must not be set higher than VDD (VDDP1<=VDD)", 17 P07 (io) "8-bit I/O port. I/O specifiable in 1 bit units. CMOS/Nch-open drain specifiable in 1bit units. Output voltage variable in 1 port units according to VDDP1 voltage.", 18 P06 (io) "8-bit I/O port. I/O specifiable in 1 bit units. CMOS/Nch-open drain specifiable in 1bit units. Output voltage variable in 1 port units according to VDDP1 voltage.", 19 P05 (io) "8-bit I/O port. I/O specifiable in 1 bit units. CMOS/Nch-open drain specifiable in 1bit units. Output voltage variable in 1 port units according to VDDP1 voltage.", 20 P04 (io) "8-bit I/O port. I/O specifiable in 1 bit units. CMOS/Nch-open drain specifiable in 1bit units. Output voltage variable in 1 port units according to VDDP1 voltage.", 21 P03 (io) "8-bit I/O port. I/O specifiable in 1 bit units. CMOS/Nch-open drain specifiable in 1bit units. Output voltage variable in 1 port units according to VDDP1 voltage.", 22 P02 (io) "8-bit I/O port. I/O specifiable in 1 bit units. CMOS/Nch-open drain specifiable in 1bit units. Output voltage variable in 1 port units according to VDDP1 voltage.", 23 P01 (io) "8-bit I/O port. I/O specifiable in 1 bit units. CMOS/Nch-open drain specifiable in 1bit units. Output voltage variable in 1 port units according to VDDP1 voltage.", 24 P00 (io) "8-bit I/O port. I/O specifiable in 1 bit units. CMOS/Nch-open drain specifiable in 1bit units. Output voltage variable in 1 port units according to VDDP1 voltage."

## LC709006A-E
designator U?
I/O-Expander for Microcontroller, 2 to 6 V, -40 to 85 degC, 36-Pin MFP36SDJ, Pb-Free, Fan-Fold; Manufacturer: On Semiconductor; PartNumber: LC709006A-E; I/O: 24; LED Blink/PWM: No; VCC Max (V): 6; VCC Min (V): 2; DatasheetVersion: Rev. 1.2; PackageVersion: Rev. A, 11/2013; PackageReference: MFP36SDJ-36-751CM; PackageDescription: 36-Pin Mini Flat Package, Body 15.2 x 7.9 mm, Pitch 0.8 mm; Supplier 1: Digi-Key; Supplier Part Number 1: LC709006A-E-ND; Supplier 2: Mouser; Supplier Part Number 2: 863-LC709006A-E; Packing: Fan-Fold; RoHS: TRUE; Mounting Technology: Surface Mount; ComponentLink1Description: Manufacturer URL; ComponentLink1URL: http://www.onsemi.com/; ComponentLink2Description: Datasheet; ComponentLink2URL: http://www.onsemi.com/pub_link/Collateral/EN8265-D.PDF; ComponentLink3Description: Package Specification; ComponentLink3URL: http://www.onsemi.com/pub_link/Collateral/751CM.PDF
footprint ONSC-MFP36SDJ-36-751CM_V (SOP, 36-Leads, Body 15.2x7.9mm, Pitch 0.8mm)
pins: 1 VSSP0 (power) "VSSP0 is the power supply pin for blocks other than I/O ports (P00 to P27)", 2 DOUT (out) "Serial data output pin", 3 DIN (in) "Serial data input pin", 4 ~{CLK} (in) "Serial clock input pin. Port data is placed on DOUT on the falling edge of this clock. The data from DIN is latched on the negative-to-positive transition of this clock.", 5 ~{CS} (in) "Chip select input pin. Setting this pin to the low level enables serial data to be input or output.", 6 VDD (power) "power supply pin", 7 ~{RES} (in) "Device's system reset input pin. Setting this pin to the low level initializes the internal control circuit and registers and puts DOUT in the high level and all data port pins (P00 to P27) into the Hi-Z state.", 8 VSS (power) "power supply pin", 9 P27 (io) "8-bit I/O port", 10 P26 (io) "8-bit I/O port", 11 P25 (io) "8-bit I/O port", 12 P24 (io) "8-bit I/O port", 13 P23 (io) "8-bit I/O port", 14 P22 (io) "8-bit I/O port", 15 P21 (io) "8-bit I/O port", 16 P20 (io) "8-bit I/O port", 17 VSSP2 (power) "VSSP2 is the power supply pin for port pins P10 to P17 and P20 to P27.", 18 VDDP2 (power) "VDDP2 is the power supply pin for port pins P20 to P27", 19 VDDP1 (power) "VDDP1 is the power supply pin for port pins P00 to P07", 20 P17 (io) "8-bit I/O port", 21 P16 (io) "8-bit I/O port", 22 P15 (io) "8-bit I/O port", 23 P14 (io) "8-bit I/O port", 24 P13 (io) "8-bit I/O port", 25 P12 (io) "8-bit I/O port", 26 P11 (io) "8-bit I/O port", 27 P10 (io) "8-bit I/O port", 28 P07 (io) "8-bit I/O port", 29 P06 (io) "8-bit I/O port", 30 P05 (io) "8-bit I/O port", 31 P04 (io) "8-bit I/O port", 32 P03 (io) "8-bit I/O port", 33 P02 (io) "8-bit I/O port", 34 P01 (io) "8-bit I/O port", 35 P00 (io) "8-bit I/O port", 36 VDDP0 (power) "VDDP0 is the power supply pin for blocks other than I/O ports (P00 to P27)"

## LC709006A-TLM-E
designator U?
I/O-Expander for Microcontroller, 2 to 6 V, -40 to 85 degC, 36-Pin MFP36SDJ, Pb-Free, Tape and Reel; Manufacturer: On Semiconductor; PartNumber: LC709006A-TLM-E; I/O: 24; LED Blink/PWM: No; VCC Max (V): 6; VCC Min (V): 2; DatasheetVersion: Rev. 1.2; PackageVersion: Rev. A, 11/2013; PackageReference: MFP36SDJ-36-751CM; PackageDescription: 36-Pin Mini Flat Package, Body 15.2 x 7.9 mm, Pitch 0.8 mm; Supplier 1: Digi-Key; Supplier Part Number 1: LC709006A-TLM-E-ND; Supplier 2: Newark; Supplier Part Number 2: 45W2691; Supplier 3: Mouser; Supplier Part Number 3: 863-LC709006A-TLM-E; Packing: Tape and Reel; RoHS: TRUE; Mounting Technology: Surface Mount; ComponentLink1Description: Manufacturer URL; ComponentLink1URL: http://www.onsemi.com/; ComponentLink2Description: Datasheet; ComponentLink2URL: http://www.onsemi.com/pub_link/Collateral/EN8265-D.PDF; ComponentLink3Description: Package Specification; ComponentLink3URL: http://www.onsemi.com/pub_link/Collateral/751CM.PDF
footprint ONSC-MFP36SDJ-36-751CM_V (SOP, 36-Leads, Body 15.2x7.9mm, Pitch 0.8mm)
pins: 1 VSSP0 (power) "VSSP0 is the power supply pin for blocks other than I/O ports (P00 to P27)", 2 DOUT (out) "Serial data output pin", 3 DIN (in) "Serial data input pin", 4 ~{CLK} (in) "Serial clock input pin. Port data is placed on DOUT on the falling edge of this clock. The data from DIN is latched on the negative-to-positive transition of this clock.", 5 ~{CS} (in) "Chip select input pin. Setting this pin to the low level enables serial data to be input or output.", 6 VDD (power) "power supply pin", 7 ~{RES} (in) "Device's system reset input pin. Setting this pin to the low level initializes the internal control circuit and registers and puts DOUT in the high level and all data port pins (P00 to P27) into the Hi-Z state.", 8 VSS (power) "power supply pin", 9 P27 (io) "8-bit I/O port", 10 P26 (io) "8-bit I/O port", 11 P25 (io) "8-bit I/O port", 12 P24 (io) "8-bit I/O port", 13 P23 (io) "8-bit I/O port", 14 P22 (io) "8-bit I/O port", 15 P21 (io) "8-bit I/O port", 16 P20 (io) "8-bit I/O port", 17 VSSP2 (power) "VSSP2 is the power supply pin for port pins P10 to P17 and P20 to P27.", 18 VDDP2 (power) "VDDP2 is the power supply pin for port pins P20 to P27", 19 VDDP1 (power) "VDDP1 is the power supply pin for port pins P00 to P07", 20 P17 (io) "8-bit I/O port", 21 P16 (io) "8-bit I/O port", 22 P15 (io) "8-bit I/O port", 23 P14 (io) "8-bit I/O port", 24 P13 (io) "8-bit I/O port", 25 P12 (io) "8-bit I/O port", 26 P11 (io) "8-bit I/O port", 27 P10 (io) "8-bit I/O port", 28 P07 (io) "8-bit I/O port", 29 P06 (io) "8-bit I/O port", 30 P05 (io) "8-bit I/O port", 31 P04 (io) "8-bit I/O port", 32 P03 (io) "8-bit I/O port", 33 P02 (io) "8-bit I/O port", 34 P01 (io) "8-bit I/O port", 35 P00 (io) "8-bit I/O port", 36 VDDP0 (power) "VDDP0 is the power supply pin for blocks other than I/O ports (P00 to P27)"

## PCA9535ECDTR2G
designator U?
16-Bit Low-Power I/O Expander for I2C Bus with Interrupt, 1.65 to 5.5 V, -55 to 125 degC, 24-Pin TSSOP, Pb-Free, Tape and Reel; Manufacturer: On Semiconductor; PartNumber: PCA9535ECDTR2G; I/O: 16; LED Blink/PWM: No; VCC Max (V): 5.5; VCC Min (V): 1.65; DatasheetVersion: Rev. 5; PackageVersion: Rev. B, 06/2012; PackageReference: TSSOP-24-948H; PackageDescription: 24-Pin Small Outline Package, Body 7.8 x 4.4 mm, Pitch 0.65 mm; Supplier 1: Digi-Key; Supplier Part Number 1: PCA9535ECDTR2G-ND; Supplier 2: Mouser; Supplier Part Number 2: 863-PCA9535ECDTR2G; Packing: Tape and Reel; RoHS: TRUE; Mounting Technology: Surface Mount; ComponentLink1Description: Manufacturer URL; ComponentLink1URL: http://www.onsemi.com/; ComponentLink2Description: Datasheet; ComponentLink2URL: http://www.onsemi.com/pub_link/Collateral/PCA9535E-D.PDF; ComponentLink3Description: Package Specification; ComponentLink3URL: http://www.onsemi.cn/pub_link/Collateral/948H-01.PDF
footprint ONSC-TSSOP-24-948H_V (SOP, 24-Leads, Body 7.9x4.5mm, Pitch 0.65mm)
pins: 1 ~{INT} (oc) "Interrupt Output (active-LOW)", 2 AD1 (in) "Address Input 1", 3 AD2 (in) "Address Input 2", 4 IO0_0 (io) "Port 0 I/O 0", 5 IO0_1 (io) "Port 0 I/O 1", 6 IO0_2 (io) "Port 0 I/O 2", 7 IO0_3 (io) "Port 0 I/O 3", 8 IO0_4 (io) "Port 0 I/O 4", 9 IO0_5 (io) "Port 0 I/O 5", 10 IO0_6 (io) "Port 0 I/O 6", 11 IO0_7 (io) "Port 0 I/O 7", 12 VSS (power) "Supply Ground", 13 IO1_0 (io) "Port 1 I/O 0", 14 IO1_1 (io) "Port 1 I/O 1", 15 IO1_2 (io) "Port 1 I/O 2", 16 IO1_3 (io) "Port 1 I/O 3", 17 IO1_4 (io) "Port 1 I/O 4", 18 IO1_5 (io) "Port 1 I/O 5", 19 IO1_6 (io) "Port 1 I/O 6", 20 IO1_7 (io) "Port 1 I/O 7", 21 AD0 (in) "Address Input 0", 22 SCL (in) "Serial Clock Line", 23 SDA (io) "Serial Data Line", 24 VDD (power) "Supply Voltage"

## PCA9535ECDWR2G
designator U?
16-Bit Low-Power I/O Expander for I2C Bus with Interrupt, 1.65 to 5.5 V, -55 to 125 degC, 24-Pin SOIC, Pb-Free, Tape and Reel; Manufacturer: On Semiconductor; PartNumber: PCA9535ECDWR2G; I/O: 16; LED Blink/PWM: No; VCC Max (V): 5.5; VCC Min (V): 1.65; DatasheetVersion: Rev. 5; PackageVersion: Rev. F, 07/2012; PackageReference: SOIC-24-751E-04; PackageDescription: 24-Pin Small Outline Integrated Circuit, Body 15.4 x 7.5 mm, Pitch 1.27 mm; Supplier 1: Digi-Key; Supplier Part Number 1: PCA9535ECDWR2G-ND; Supplier 2: Mouser; Supplier Part Number 2: 863-PCA9535ECDWR2G; Packing: Tape and Reel; RoHS: TRUE; Mounting Technology: Surface Mount; ComponentLink1Description: Manufacturer URL; ComponentLink1URL: http://www.onsemi.com/; ComponentLink2Description: Datasheet; ComponentLink2URL: http://www.onsemi.com/pub_link/Collateral/PCA9535E-D.PDF; ComponentLink3Description: Package Specification; ComponentLink3URL: http://www.onsemi.com/pub_link/Collateral/751E-04.PDF
footprint ONSC-SOIC-24-751E-04_V (SOIC, 24-Leads, Body 15.54x7.6mm, Pitch 1.27mm)
pins: 1 ~{INT} (oc) "Interrupt Output (active-LOW)", 2 AD1 (in) "Address Input 1", 3 AD2 (in) "Address Input 2", 4 IO0_0 (io) "Port 0 I/O 0", 5 IO0_1 (io) "Port 0 I/O 1", 6 IO0_2 (io) "Port 0 I/O 2", 7 IO0_3 (io) "Port 0 I/O 3", 8 IO0_4 (io) "Port 0 I/O 4", 9 IO0_5 (io) "Port 0 I/O 5", 10 IO0_6 (io) "Port 0 I/O 6", 11 IO0_7 (io) "Port 0 I/O 7", 12 VSS (power) "Supply Ground", 13 IO1_0 (io) "Port 1 I/O 0", 14 IO1_1 (io) "Port 1 I/O 1", 15 IO1_2 (io) "Port 1 I/O 2", 16 IO1_3 (io) "Port 1 I/O 3", 17 IO1_4 (io) "Port 1 I/O 4", 18 IO1_5 (io) "Port 1 I/O 5", 19 IO1_6 (io) "Port 1 I/O 6", 20 IO1_7 (io) "Port 1 I/O 7", 21 AD0 (in) "Address Input 0", 22 SCL (in) "Serial Clock Line", 23 SDA (io) "Serial Data Line", 24 VDD (power) "Supply Voltage"

## PCA9535ECMTTXG
designator U?
16-Bit Low-Power I/O Expander for I2C Bus with Interrupt, 1.65 to 5.5 V, -55 to 125 degC, 24-Pin WQFN, Pb-Free, Tape and Reel; Manufacturer: On Semiconductor; PartNumber: PCA9535ECMTTXG; I/O: 16; LED Blink/PWM: No; VCC Max (V): 5.5; VCC Min (V): 1.65; DatasheetVersion: Rev. 5; PackageVersion: Rev. A, 04/2012; PackageReference: WQFN24-24-485BG; PackageDescription: 24-Pin Quad Flat No-Lead, Body 4 x 4 mm, Pitch 0.5 mm; Supplier 1: Digi-Key; Supplier Part Number 1: PCA9535ECMTTXG-ND; Supplier 2: Mouser; Supplier Part Number 2: 863-PCA9535ECMTTXG; Packing: Tape and Reel; RoHS: TRUE; Mounting Technology: Surface Mount; ComponentLink1Description: Manufacturer URL; ComponentLink1URL: http://www.onsemi.com/; ComponentLink2Description: Datasheet; ComponentLink2URL: http://www.onsemi.com/pub_link/Collateral/PCA9535E-D.PDF; ComponentLink3Description: Package Specification; ComponentLink3URL: http://www.onsemi.com/pub_link/Collateral/485BG.PDF
footprint ONSC-WQFN24-24-485BG_V (QFN, 24-Leads, Body 4x4mm, Pitch 0.5mm, Thermal Pad 2.26x2.26mm)
pins: 1 IO0_0 (io) "Port 0 I/O 0", 2 IO0_1 (io) "Port 0 I/O 1", 3 IO0_2 (io) "Port 0 I/O 2", 4 IO0_3 (io) "Port 0 I/O 3", 5 IO0_4 (io) "Port 0 I/O 4", 6 IO0_5 (io) "Port 0 I/O 5", 7 IO0_6 (io) "Port 0 I/O 6", 8 IO0_7 (io) "Port 0 I/O 7", 9 VSS (power) "Supply Ground", 10 IO1_0 (io) "Port 1 I/O 0", 11 IO1_1 (io) "Port 1 I/O 1", 12 IO1_2 (io) "Port 1 I/O 2", 13 IO1_3 (io) "Port 1 I/O 3", 14 IO1_4 (io) "Port 1 I/O 4", 15 IO1_5 (io) "Port 1 I/O 5", 16 IO1_6 (io) "Port 1 I/O 6", 17 IO1_7 (io) "Port 1 I/O 7", 18 AD0 (in) "Address Input 0", 19 SCL (in) "Serial Clock Line", 20 SDA (io) "Serial Data Line", 21 VDD (power) "Supply Voltage", 22 ~{INT} (oc) "Interrupt Output (active-LOW)", 23 AD1 (in) "Address Input 1", 24 AD2 (in) "Address Input 2", 25 EP

## PCA9535EDTR2G
designator U?
16-Bit Low-Power I/O Expander for I2C Bus with Interrupt, 1.65 to 5.5 V, -55 to 125 degC, 24-Pin TSSOP, Pb-Free, Tape and Reel; Manufacturer: On Semiconductor; PartNumber: PCA9535EDTR2G; I/O: 16; LED Blink/PWM: No; VCC Max (V): 5.5; VCC Min (V): 1.65; DatasheetVersion: Rev. 5; PackageVersion: Rev. B, 06/2012; PackageReference: TSSOP-24-948H; PackageDescription: 24-Pin Small Outline Package, Body 7.8 x 4.4 mm, Pitch 0.65 mm; Supplier 1: Digi-Key; Supplier Part Number 1: PCA9535EDTR2G-ND; Supplier 2: Mouser; Supplier Part Number 2: 863-PCA9535EDTR2G; Packing: Tape and Reel; RoHS: TRUE; Mounting Technology: Surface Mount; ComponentLink1Description: Manufacturer URL; ComponentLink1URL: http://www.onsemi.com/; ComponentLink2Description: Datasheet; ComponentLink2URL: http://www.onsemi.com/pub_link/Collateral/PCA9535E-D.PDF; ComponentLink3Description: Package Specification; ComponentLink3URL: http://www.onsemi.cn/pub_link/Collateral/948H-01.PDF
footprint ONSC-TSSOP-24-948H_V (SOP, 24-Leads, Body 7.9x4.5mm, Pitch 0.65mm)
pins: 1 ~{INT} (oc) "Interrupt Output (active-LOW)", 2 AD1 (in) "Address Input 1", 3 AD2 (in) "Address Input 2", 4 IO0_0 (io) "Port 0 I/O 0", 5 IO0_1 (io) "Port 0 I/O 1", 6 IO0_2 (io) "Port 0 I/O 2", 7 IO0_3 (io) "Port 0 I/O 3", 8 IO0_4 (io) "Port 0 I/O 4", 9 IO0_5 (io) "Port 0 I/O 5", 10 IO0_6 (io) "Port 0 I/O 6", 11 IO0_7 (io) "Port 0 I/O 7", 12 VSS (power) "Supply Ground", 13 IO1_0 (io) "Port 1 I/O 0", 14 IO1_1 (io) "Port 1 I/O 1", 15 IO1_2 (io) "Port 1 I/O 2", 16 IO1_3 (io) "Port 1 I/O 3", 17 IO1_4 (io) "Port 1 I/O 4", 18 IO1_5 (io) "Port 1 I/O 5", 19 IO1_6 (io) "Port 1 I/O 6", 20 IO1_7 (io) "Port 1 I/O 7", 21 AD0 (in) "Address Input 0", 22 SCL (in) "Serial Clock Line", 23 SDA (io) "Serial Data Line", 24 VDD (power) "Supply Voltage"

## PCA9535EDWR2G
designator U?
16-Bit Low-Power I/O Expander for I2C Bus with Interrupt, 1.65 to 5.5 V, -55 to 125 degC, 24-Pin SOIC, Pb-Free, Tape and Reel; Manufacturer: On Semiconductor; PartNumber: PCA9535EDWR2G; I/O: 16; LED Blink/PWM: No; VCC Max (V): 5.5; VCC Min (V): 1.65; DatasheetVersion: Rev. 5; PackageVersion: Rev. F, 07/2012; PackageReference: SOIC-24-751E-04; PackageDescription: 24-Pin Small Outline Integrated Circuit, Body 15.4 x 7.5 mm, Pitch 1.27 mm; Supplier 1: Digi-Key; Supplier Part Number 1: PCA9535EDWR2G-ND; Supplier 2: Mouser; Supplier Part Number 2: 863-PCA9535EDWR2G; Packing: Tape and Reel; RoHS: TRUE; Mounting Technology: Surface Mount; ComponentLink1Description: Manufacturer URL; ComponentLink1URL: http://www.onsemi.com/; ComponentLink2Description: Datasheet; ComponentLink2URL: http://www.onsemi.com/pub_link/Collateral/PCA9535E-D.PDF; ComponentLink3Description: Package Specification; ComponentLink3URL: http://www.onsemi.com/pub_link/Collateral/751E-04.PDF
footprint ONSC-SOIC-24-751E-04_V (SOIC, 24-Leads, Body 15.54x7.6mm, Pitch 1.27mm)
pins: 1 ~{INT} (oc) "Interrupt Output (active-LOW)", 2 AD1 (in) "Address Input 1", 3 AD2 (in) "Address Input 2", 4 IO0_0 (io) "Port 0 I/O 0", 5 IO0_1 (io) "Port 0 I/O 1", 6 IO0_2 (io) "Port 0 I/O 2", 7 IO0_3 (io) "Port 0 I/O 3", 8 IO0_4 (io) "Port 0 I/O 4", 9 IO0_5 (io) "Port 0 I/O 5", 10 IO0_6 (io) "Port 0 I/O 6", 11 IO0_7 (io) "Port 0 I/O 7", 12 VSS (power) "Supply Ground", 13 IO1_0 (io) "Port 1 I/O 0", 14 IO1_1 (io) "Port 1 I/O 1", 15 IO1_2 (io) "Port 1 I/O 2", 16 IO1_3 (io) "Port 1 I/O 3", 17 IO1_4 (io) "Port 1 I/O 4", 18 IO1_5 (io) "Port 1 I/O 5", 19 IO1_6 (io) "Port 1 I/O 6", 20 IO1_7 (io) "Port 1 I/O 7", 21 AD0 (in) "Address Input 0", 22 SCL (in) "Serial Clock Line", 23 SDA (io) "Serial Data Line", 24 VDD (power) "Supply Voltage"

## PCA9535EMTTXG
designator U?
16-Bit Low-Power I/O Expander for I2C Bus with Interrupt, 1.65 to 5.5 V, -55 to 125 degC, 24-Pin WQFN, Pb-Free, Tape and Reel; Manufacturer: On Semiconductor; PartNumber: PCA9535EMTTXG; I/O: 16; LED Blink/PWM: No; VCC Max (V): 5.5; VCC Min (V): 1.65; DatasheetVersion: Rev. 5; PackageVersion: Rev. A, 04/2012; PackageReference: WQFN24-24-485BG; PackageDescription: 24-Pin Quad Flat No-Lead, Body 4 x 4 mm, Pitch 0.5 mm; Supplier 1: Digi-Key; Supplier Part Number 1: PCA9535EMTTXG-ND; Supplier 2: Mouser; Supplier Part Number 2: 863-PCA9535EMTTXG; Packing: Tape and Reel; RoHS: TRUE; Mounting Technology: Surface Mount; ComponentLink1Description: Manufacturer URL; ComponentLink1URL: http://www.onsemi.com/; ComponentLink2Description: Datasheet; ComponentLink2URL: http://www.onsemi.com/pub_link/Collateral/PCA9535E-D.PDF; ComponentLink3Description: Package Specification; ComponentLink3URL: http://www.onsemi.com/pub_link/Collateral/485BG.PDF
footprint ONSC-WQFN24-24-485BG_V (QFN, 24-Leads, Body 4x4mm, Pitch 0.5mm, Thermal Pad 2.26x2.26mm)
pins: 1 IO0_0 (io) "Port 0 I/O 0", 2 IO0_1 (io) "Port 0 I/O 1", 3 IO0_2 (io) "Port 0 I/O 2", 4 IO0_3 (io) "Port 0 I/O 3", 5 IO0_4 (io) "Port 0 I/O 4", 6 IO0_5 (io) "Port 0 I/O 5", 7 IO0_6 (io) "Port 0 I/O 6", 8 IO0_7 (io) "Port 0 I/O 7", 9 VSS (power) "Supply Ground", 10 IO1_0 (io) "Port 1 I/O 0", 11 IO1_1 (io) "Port 1 I/O 1", 12 IO1_2 (io) "Port 1 I/O 2", 13 IO1_3 (io) "Port 1 I/O 3", 14 IO1_4 (io) "Port 1 I/O 4", 15 IO1_5 (io) "Port 1 I/O 5", 16 IO1_6 (io) "Port 1 I/O 6", 17 IO1_7 (io) "Port 1 I/O 7", 18 AD0 (in) "Address Input 0", 19 SCL (in) "Serial Clock Line", 20 SDA (io) "Serial Data Line", 21 VDD (power) "Supply Voltage", 22 ~{INT} (oc) "Interrupt Output (active-LOW)", 23 AD1 (in) "Address Input 1", 24 AD2 (in) "Address Input 2", 25 EP

## PCA9655EDTR2G
designator U?
Remote 16-Bit I/O Expander for I2C Bus with Interrupt, 1.65 to 5.5 V, -55 to 125 degC, 24-Pin TSSOP, Pb-Free, Tape and Reel; Manufacturer: On Semiconductor; PartNumber: PCA9655EDTR2G; I/O: 16; LED Blink/PWM: No; VCC Max (V): 5.5; VCC Min (V): 1.65; DatasheetVersion: Rev. 3; PackageVersion: Rev. A, 04/2001; PackageReference: TSSOP-24-948H-01_A; PackageDescription: 24-Pin Small Outline Package, Body 7.8 x 4.4 mm, Pitch 0.65 mm; Supplier 1: Digi-Key; Supplier Part Number 1: PCA9655EDTR2GOSTR-ND; Supplier 2: Digi-Key; Supplier Part Number 2: PCA9655EDTR2GOSCT-ND; Supplier 3: Digi-Key; Supplier Part Number 3: PCA9655EDTR2GOSDKR-ND; Supplier 4: Mouser; Supplier Part Number 4: 863-PCA9655EDTR2G; Packing: Tape and Reel; RoHS: TRUE; Mounting Technology: Surface Mount; ComponentLink1Description: Manufacturer URL; ComponentLink1URL: http://www.onsemi.com/; ComponentLink2Description: Datasheet; ComponentLink2URL: http://www.onsemi.com/pub_link/Collateral/PCA9655E-D.PDF; ComponentLink3Description: Package Specification; ComponentLink3URL: http://www.onsemi.com/pub_link/Collateral/MC74LVX4245-D.PDF
footprint ONSC-TSSOP-24-948H-01_A_N (SOP, 24-Leads, Body 7.9x4.5mm, Pitch 0.65mm, IPC Medium Density)
footprint ONSC-TSSOP-24-948H-01_A_L (SOP, 24-Leads, Body 7.9x4.5mm, Pitch 0.65mm, IPC High Density)
footprint ONSC-TSSOP-24-948H-01_A_M (SOP, 24-Leads, Body 7.9x4.5mm, Pitch 0.65mm, IPC Low Density)
pins: 1 ~{INT} (oc) "Interrupt Output (active-LOW)", 2 AD1 (in) "Address Input 1", 3 AD2 (in) "Address Input 2", 4 IO0_0 (io) "Port 0 I/O 0", 5 IO0_1 (io) "Port 0 I/O 1", 6 IO0_2 (io) "Port 0 I/O 2", 7 IO0_3 (io) "Port 0 I/O 3", 8 IO0_4 (io) "Port 0 I/O 4", 9 IO0_5 (io) "Port 0 I/O 5", 10 IO0_6 (io) "Port 0 I/O 6", 11 IO0_7 (io) "Port 0 I/O 7", 12 VSS (power) "Supply Ground", 13 IO1_0 (io) "Port 1 I/O 0", 14 IO1_1 (io) "Port 1 I/O 1", 15 IO1_2 (io) "Port 1 I/O 2", 16 IO1_3 (io) "Port 1 I/O 3", 17 IO1_4 (io) "Port 1 I/O 4", 18 IO1_5 (io) "Port 1 I/O 5", 19 IO1_6 (io) "Port 1 I/O 6", 20 IO1_7 (io) "Port 1 I/O 7", 21 AD0 (in) "Address Input 0", 22 SCL (in) "Serial Clock Line", 23 SDA (io) "Serial Data Line", 24 VDD (power) "Supply Voltage"